# Altium footprint library Rear_Tail_Lights_FULL.PcbLib: 5 footprints
Each footprint in its own frame and in the unit in brackets; x right, y up, seen from the top. Pads: shape width x height; smd on the part's side, far side on the other; paste and mask are expansions set on the pad; w line width, h text height; cw(c..) or ccw(c..) is an arc to the next point about the centre after c.
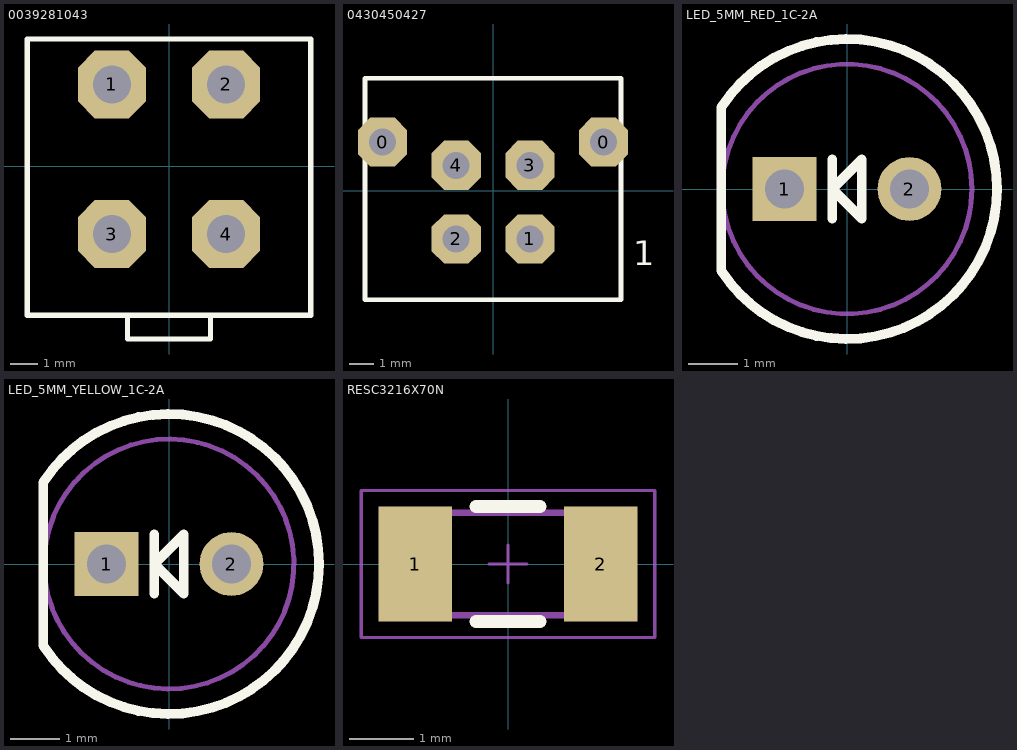
[diagram p0: the footprints below, top view; thin cyan lines are the x and y axes]

## 0039281043 [mm] "Connector Header Through Hole 4 position 0.165\" (4.20mm)"
height 9.91
pads (4):
  oct 2.5x2.5 hole 1.4: 1(-2.1,3.004) 2(2.1,3.004) 3(-2.1,-2.496) 4(2.1,-2.496)
Top Overlay:
  lines w0.2: -1.524,-5.479 -1.524,-6.35 1.524,-6.35 1.524,-5.479 ; -5.207,-5.479 5.207,-5.479 5.207,4.673 -5.207,4.673 -5.207,-5.479
3D body "039281043.stp": height 12.8, standoff -3.5, extent -5.2,-6.327 5.2,4.673

## 0430450427 [mm] "CONN HEADER VERT 4POS 3MM"
height 9.91
pads (6):
  oct 2x2 hole 1.1: 0(-4.5,1.97) 0(4.5,1.97) 1(1.5,-1.97) 2(-1.5,-1.97) 3(1.5,1.03) 4(-1.5,1.03)
Top Overlay:
  lines w0.2: -5.207,-4.445 -5.207,4.572 5.207,4.572 5.207,-4.445 -5.207,-4.445
  text "1" at 5.715,-3.048 h1
3D body "430450427.stp": height 9.95, standoff -3.14, extent -5.075,-4.351 5.075,4.419

## LED_5MM_RED_1C-2A [mm] "LED, Red, Body Dia. 5.08mm, Pin spacing 2.54mm"
height 9.19
pads (2):
  rect 1.3x1.3 hole 0.8: 1(-1.27,0)
  round 1.3 hole 0.8: 2(1.27,0)
Top Overlay:
  lines w0.2: -0.3,-0.6 -0.3,0.6 ; -2.558,-1.661 ccw(c0,0) -2.558,1.661 -2.558,-1.661 ; -0.3,0 0.3,-0.6 0.3,0.6 -0.3,0
Mechanical 14:
  circle w0.1: c0,0 r2.54
  lines w0.1: -0.3,-0.6 -0.3,0.6 ; -2.529,-1.706 ccw(c0,0) -2.529,1.706 -2.529,-1.706 ; -0.3,0 0.3,0.6 0.3,-0.6 -0.3,0
3D body "LED_5MM_RED_v.stp": height 14.32, standoff -3.5, extent -2.54,-3.048 3.05,3.048

## LED_5MM_YELLOW_1C-2A [mm] "LED, Yellow, Body Dia. 5.08mm, Pin spacing 2.54mm"
height 9.19
pads (2):
  rect 1.3x1.3 hole 0.8: 1(-1.27,0)
  round 1.3 hole 0.8: 2(1.27,0)
Top Overlay:
  lines w0.2: -0.3,-0.6 -0.3,0.6 ; -2.558,-1.661 ccw(c0,0) -2.558,1.661 -2.558,-1.661 ; -0.3,0 0.3,0.6 0.3,-0.6 -0.3,0
Mechanical 14:
  lines w0.1: -0.3,-0.6 -0.3,0.6 ; -2.529,-1.706 ccw(c0,0) -2.529,1.706 -2.529,-1.706 ; -0.3,0 0.3,0.6 0.3,-0.6 -0.3,0 ; 0.785,-2.416 ccw(c0,0) 0.785,-2.416
3D body "LED_5MM_YELLOW_v.stp": height 14.32, standoff -3.5, extent -2.54,-3.048 3.05,3.048

## RESC3216X70N [mm] "Chip Resistor, EIA 1206, Metric 3216, Body 3.2x1.6mm, IPC Medium Density"
height 0.7
pads (2):
  rect 1.15x1.8 smd: 1(-1.45,0) 2(1.45,0)
Top Overlay:
  lines w0.2: -0.5,-0.9 0.5,-0.9 ; -0.5,0.9 0.5,0.9
Mechanical 14:
  lines w0.1: -1.6,-0.8 -1.6,0.8 1.6,0.8 1.6,-0.8 -1.6,-0.8
Mechanical 15:
  lines w0.05: -0.3,0 0.3,0 ; 0,-0.3 0,0.3 ; -2.3,-1.15 -2.3,1.15 2.3,1.15 2.3,-1.15 -2.3,-1.15
3D body "RESC3216X70N.stp": height 0.7, standoff 0, extent -1.7,-0.9 1.7,0.9